# Altium schematic symbol library SparkFun-LED.SCHLIB: 86 symbols (part 1 of 2)
Pins are listed as number, name and electrical type; pins without a type are passive.

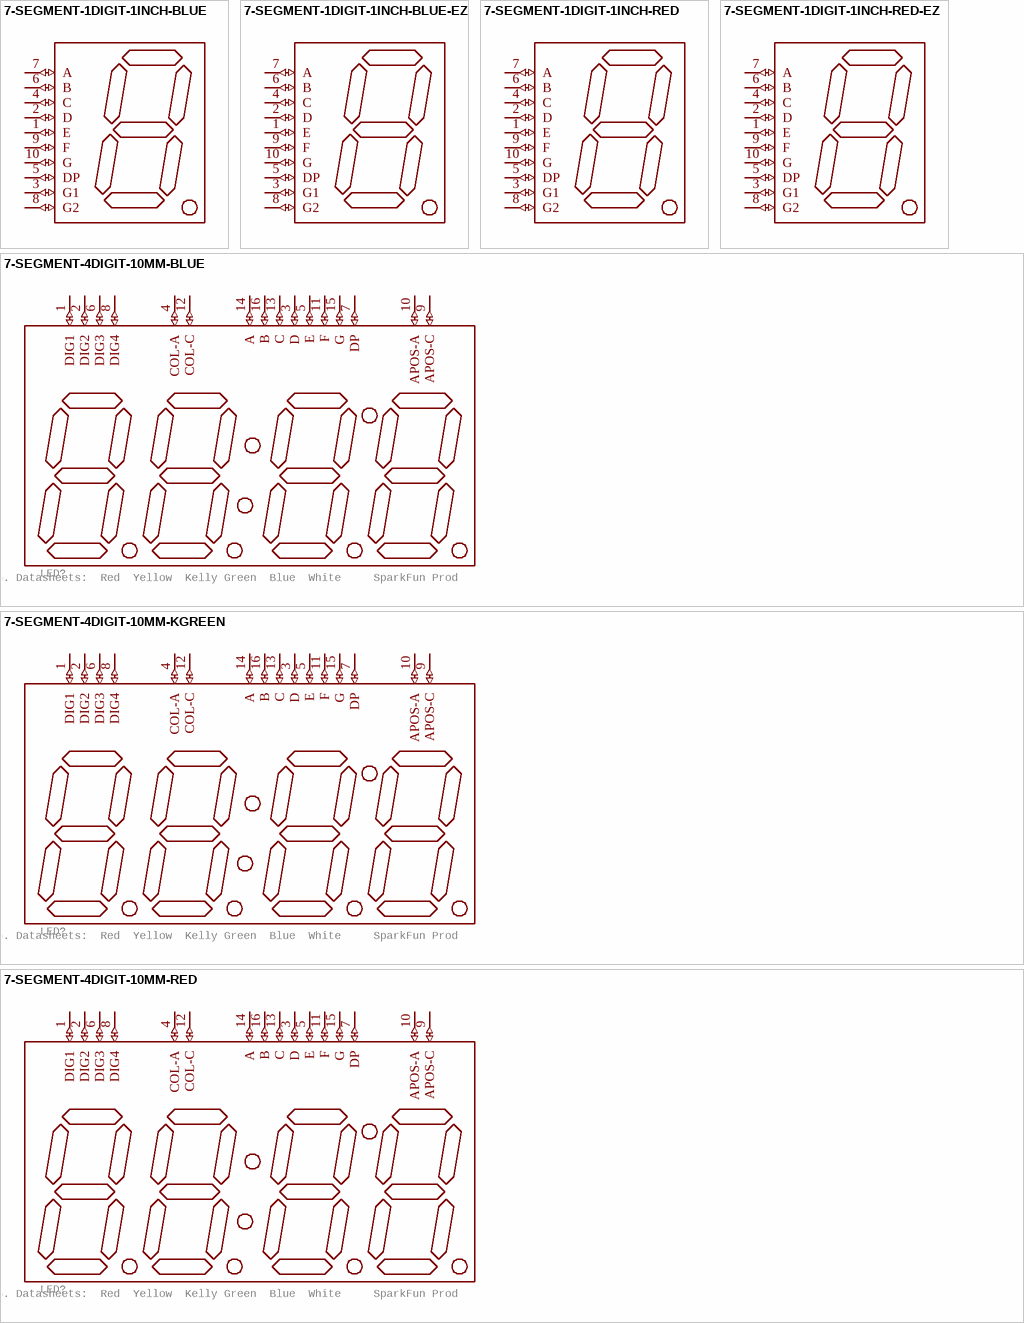
[diagram p0: symbols 7-SEGMENT-1DIGIT-1INCH-BLUE to 7-SEGMENT-4DIGIT-10MM-RED]

## 7-SEGMENT-1DIGIT-1INCH-BLUE
designator ?, comment 7-Segment Display, single digit, 1"    EZ is for kits. Pads are only exposed on the bottom side to help prevent soldering in upside down.    Datasheet (Red) Datasheet (Blue) SparkFun Products  7-Segment Display - LED (Red) (COM-08546)  7-Segment Display - LED (Blue) (COM-09191)  (value not drawn)
GateName_1: G$1; SymbolName_1: 7-SEGMENT-1"; DeviceName: -BLUE; DeviceSetName: 7-SEGMENT-1DIGIT-1INCH; PROD_ID: COMP-09495; LibraryName: SparkFun-LED; Package: 7-SEGMENT-1"PTH
footprint 7-SEGMENT-1"PTH
pins: 1 E (io), 2 D (io), 3 G1 (io), 4 C (io), 5 DP (io), 6 B (io), 7 A (io), 8 G2 (io), 9 F (io), 10 G (io)

## 7-SEGMENT-1DIGIT-1INCH-BLUE-EZ
designator ?, comment 7-Segment Display, single digit, 1"    EZ is for kits. Pads are only exposed on the bottom side to help prevent soldering in upside down.    Datasheet (Red) Datasheet (Blue) SparkFun Products  7-Segment Display - LED (Red) (COM-08546)  7-Segment Display - LED (Blue) (COM-09191)  (value not drawn)
GateName_1: G$1; SymbolName_1: 7-SEGMENT-1"; DeviceName: -BLUE-EZ; DeviceSetName: 7-SEGMENT-1DIGIT-1INCH; PROD_ID: COMP-09495; LibraryName: SparkFun-LED; Package: 7-SEGMENT-1"PTH-EZ
footprint 7-SEGMENT-1"PTH-EZ
pins: 1 E (io), 2 D (io), 3 G1 (io), 4 C (io), 5 DP (io), 6 B (io), 7 A (io), 8 G2 (io), 9 F (io), 10 G (io)

## 7-SEGMENT-1DIGIT-1INCH-RED
designator ?, comment 7-Segment Display, single digit, 1"    EZ is for kits. Pads are only exposed on the bottom side to help prevent soldering in upside down.    Datasheet (Red) Datasheet (Blue) SparkFun Products  7-Segment Display - LED (Red) (COM-08546)  7-Segment Display - LED (Blue) (COM-09191)  (value not drawn)
GateName_1: G$1; SymbolName_1: 7-SEGMENT-1"; DeviceName: -RED; DeviceSetName: 7-SEGMENT-1DIGIT-1INCH; PROD_ID: COMP-08615; LibraryName: SparkFun-LED; Package: 7-SEGMENT-1"PTH
footprint 7-SEGMENT-1"PTH
pins: 1 E (io), 2 D (io), 3 G1 (io), 4 C (io), 5 DP (io), 6 B (io), 7 A (io), 8 G2 (io), 9 F (io), 10 G (io)

## 7-SEGMENT-1DIGIT-1INCH-RED-EZ
designator ?, comment 7-Segment Display, single digit, 1"    EZ is for kits. Pads are only exposed on the bottom side to help prevent soldering in upside down.    Datasheet (Red) Datasheet (Blue) SparkFun Products  7-Segment Display - LED (Red) (COM-08546)  7-Segment Display - LED (Blue) (COM-09191)  (value not drawn)
GateName_1: G$1; SymbolName_1: 7-SEGMENT-1"; DeviceName: -RED-EZ; DeviceSetName: 7-SEGMENT-1DIGIT-1INCH; PROD_ID: COMP-08615; LibraryName: SparkFun-LED; Package: 7-SEGMENT-1"PTH-EZ
footprint 7-SEGMENT-1"PTH-EZ
pins: 1 E (io), 2 D (io), 3 G1 (io), 4 C (io), 5 DP (io), 6 B (io), 7 A (io), 8 G2 (io), 9 F (io), 10 G (io)

## 7-SEGMENT-4DIGIT-10MM-BLUE
designator LED?, comment 4 Digit 7 Segment Display    This is a part for the 4-Digit 7-segment LEDs from Young Sun.  Different from the Digikey LEDs, all 16 pins are used.  The LONGPADS Variant is used for a test jig, but you may like it because there is more pad to solder to. If you are concerned about routing space, the standard works just fine though. Datasheets:  Red  Yellow  Kelly Green  Blue  White     SparkFun Products  Raw Components  7-Segment Display - 4-Digit (Red) (COM-09483)  7-Segment Display - 4-Digit (Yellow) (COM-09480)  7-Segment Display - 4-Digit (Kelly Green) (COM-09482)  7-Segment Display - 4-Digit (Blue) (COM-09481)  7-Segment Display - 4-Digit (White) ( COM-10931)  Serial Controlled  SparkFun 7-Segment Serial Display - Red (COM-11441)  SparkFun 7-Segment Serial Display - Yellow (COM-11443)  SparkFun 7-Segment Serial Display - Kelly Green (COM-11440)  SparkFun 7-Segment Serial Display - Blue (COM-11442)  SparkFun 7-Segment Serial Display - White (COM-11629)  Other  SparkFun BigTime Watch Kit (KIT-11734)
GateName_1: G$1; SymbolName_1: 7-SEGMENT-4DIGIT-YOUNGSUN; DeviceName: -BLUE; DeviceSetName: 7-SEGMENT-4DIGIT-10MM; PROD_ID: COMP-09664; LibraryName: SparkFun-LED; Package: 7-SEGMENT-4DIGIT-YOUNGSUN
footprint 7-SEGMENT-4DIGIT-YOUNGSUN
pins: 1 DIG1 (io), 2 DIG2 (io), 3 D (io), 4 COL-A (io), 5 E (io), 6 DIG3 (io), 7 DP (io), 8 DIG4 (io), 9 APOS-C (io), 10 APOS-A (io), 11 F (io), 12 COL-C (io), 13 C (io), 14 A (io), 15 G (io), 16 B (io)

## 7-SEGMENT-4DIGIT-10MM-KGREEN
designator LED?, comment 4 Digit 7 Segment Display    This is a part for the 4-Digit 7-segment LEDs from Young Sun.  Different from the Digikey LEDs, all 16 pins are used.  The LONGPADS Variant is used for a test jig, but you may like it because there is more pad to solder to. If you are concerned about routing space, the standard works just fine though. Datasheets:  Red  Yellow  Kelly Green  Blue  White     SparkFun Products  Raw Components  7-Segment Display - 4-Digit (Red) (COM-09483)  7-Segment Display - 4-Digit (Yellow) (COM-09480)  7-Segment Display - 4-Digit (Kelly Green) (COM-09482)  7-Segment Display - 4-Digit (Blue) (COM-09481)  7-Segment Display - 4-Digit (White) ( COM-10931)  Serial Controlled  SparkFun 7-Segment Serial Display - Red (COM-11441)  SparkFun 7-Segment Serial Display - Yellow (COM-11443)  SparkFun 7-Segment Serial Display - Kelly Green (COM-11440)  SparkFun 7-Segment Serial Display - Blue (COM-11442)  SparkFun 7-Segment Serial Display - White (COM-11629)  Other  SparkFun BigTime Watch Kit (KIT-11734)
GateName_1: G$1; SymbolName_1: 7-SEGMENT-4DIGIT-YOUNGSUN; DeviceName: -KGREEN; DeviceSetName: 7-SEGMENT-4DIGIT-10MM; PROD_ID: COMP-09665; LibraryName: SparkFun-LED; Package: 7-SEGMENT-4DIGIT-YOUNGSUN
footprint 7-SEGMENT-4DIGIT-YOUNGSUN
pins: 1 DIG1 (io), 2 DIG2 (io), 3 D (io), 4 COL-A (io), 5 E (io), 6 DIG3 (io), 7 DP (io), 8 DIG4 (io), 9 APOS-C (io), 10 APOS-A (io), 11 F (io), 12 COL-C (io), 13 C (io), 14 A (io), 15 G (io), 16 B (io)

## 7-SEGMENT-4DIGIT-10MM-RED
designator LED?, comment 4 Digit 7 Segment Display    This is a part for the 4-Digit 7-segment LEDs from Young Sun.  Different from the Digikey LEDs, all 16 pins are used.  The LONGPADS Variant is used for a test jig, but you may like it because there is more pad to solder to. If you are concerned about routing space, the standard works just fine though. Datasheets:  Red  Yellow  Kelly Green  Blue  White     SparkFun Products  Raw Components  7-Segment Display - 4-Digit (Red) (COM-09483)  7-Segment Display - 4-Digit (Yellow) (COM-09480)  7-Segment Display - 4-Digit (Kelly Green) (COM-09482)  7-Segment Display - 4-Digit (Blue) (COM-09481)  7-Segment Display - 4-Digit (White) ( COM-10931)  Serial Controlled  SparkFun 7-Segment Serial Display - Red (COM-11441)  SparkFun 7-Segment Serial Display - Yellow (COM-11443)  SparkFun 7-Segment Serial Display - Kelly Green (COM-11440)  SparkFun 7-Segment Serial Display - Blue (COM-11442)  SparkFun 7-Segment Serial Display - White (COM-11629)  Other  SparkFun BigTime Watch Kit (KIT-11734)
GateName_1: G$1; SymbolName_1: 7-SEGMENT-4DIGIT-YOUNGSUN; DeviceName: -RED; DeviceSetName: 7-SEGMENT-4DIGIT-10MM; PROD_ID: COMP-09493; LibraryName: SparkFun-LED; Package: 7-SEGMENT-4DIGIT-YOUNGSUN
footprint 7-SEGMENT-4DIGIT-YOUNGSUN
pins: 1 DIG1 (io), 2 DIG2 (io), 3 D (io), 4 COL-A (io), 5 E (io), 6 DIG3 (io), 7 DP (io), 8 DIG4 (io), 9 APOS-C (io), 10 APOS-A (io), 11 F (io), 12 COL-C (io), 13 C (io), 14 A (io), 15 G (io), 16 B (io)

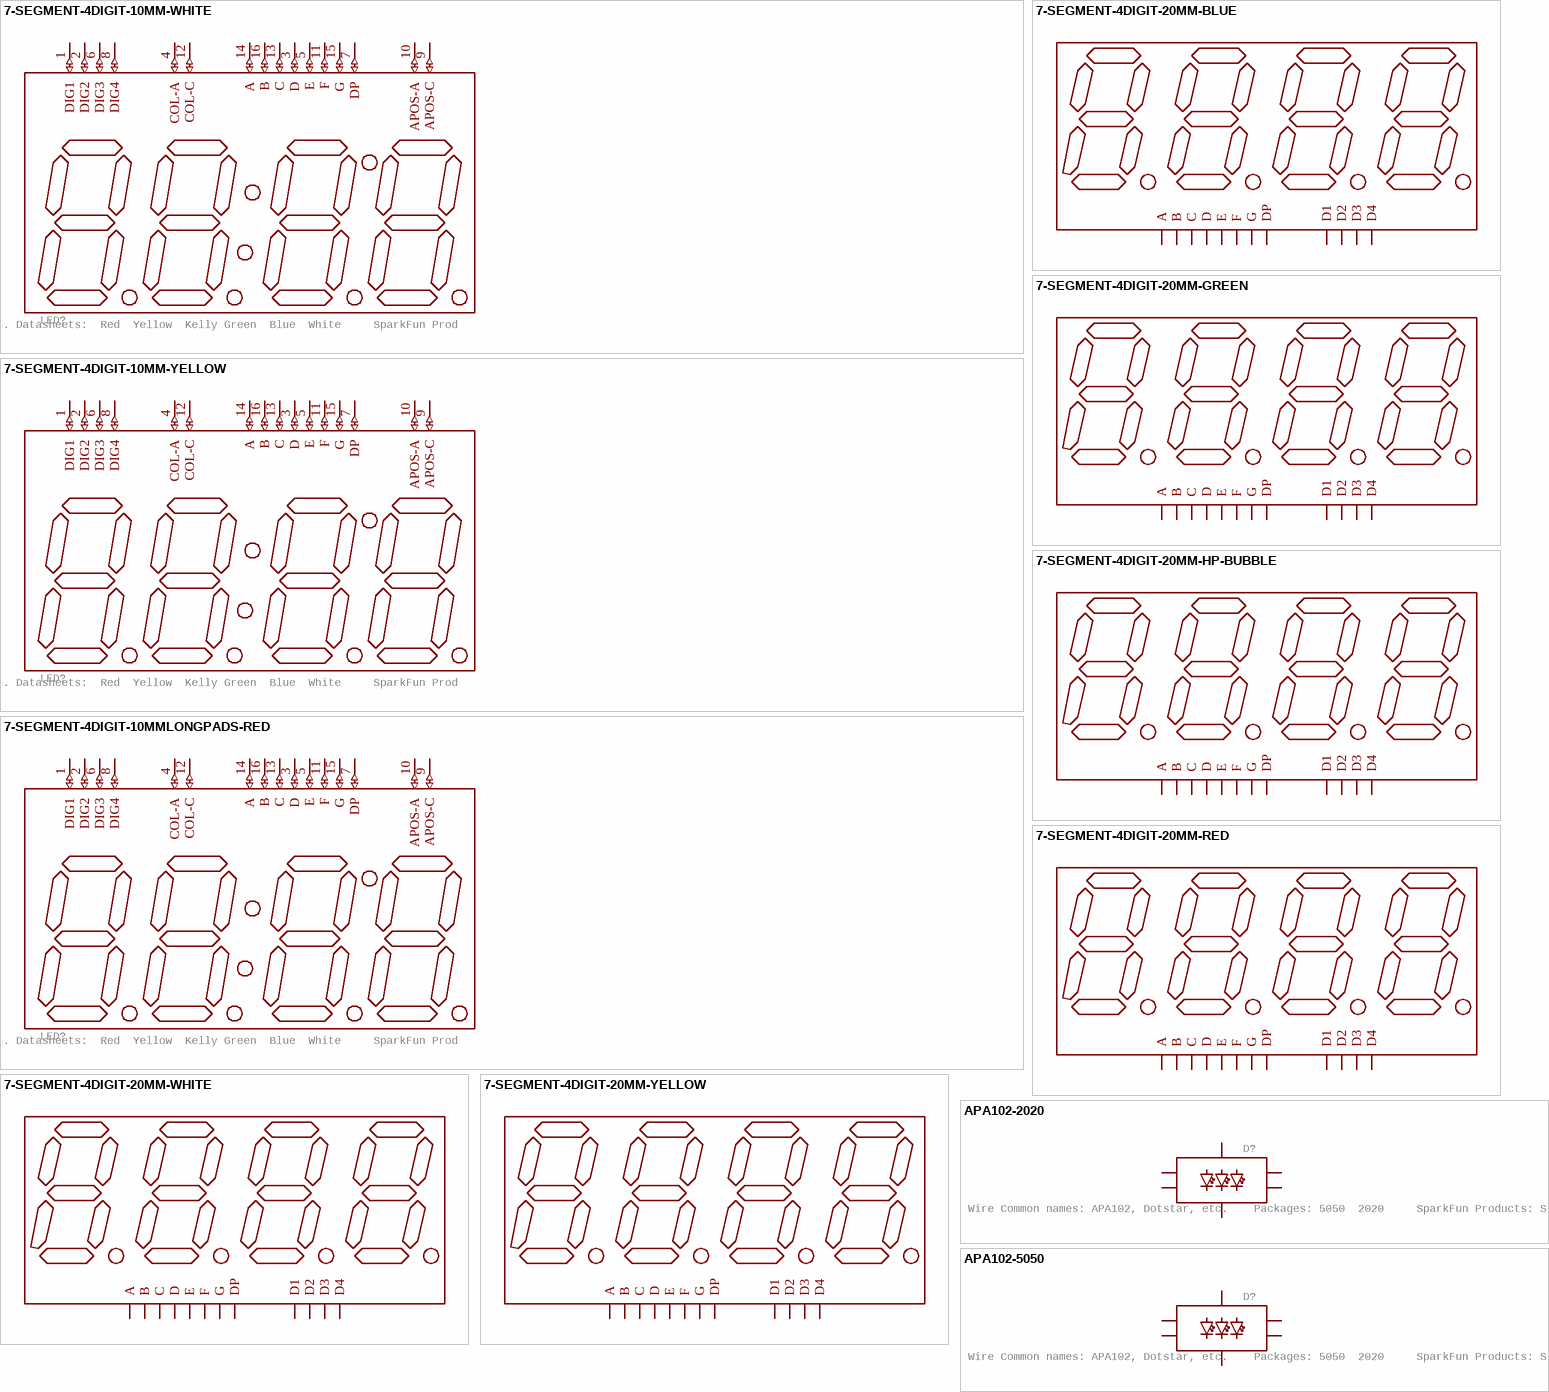
[diagram p1: symbols 7-SEGMENT-4DIGIT-10MM-WHITE to APA102-5050]

## 7-SEGMENT-4DIGIT-10MM-WHITE
designator LED?, comment 4 Digit 7 Segment Display    This is a part for the 4-Digit 7-segment LEDs from Young Sun.  Different from the Digikey LEDs, all 16 pins are used.  The LONGPADS Variant is used for a test jig, but you may like it because there is more pad to solder to. If you are concerned about routing space, the standard works just fine though. Datasheets:  Red  Yellow  Kelly Green  Blue  White     SparkFun Products  Raw Components  7-Segment Display - 4-Digit (Red) (COM-09483)  7-Segment Display - 4-Digit (Yellow) (COM-09480)  7-Segment Display - 4-Digit (Kelly Green) (COM-09482)  7-Segment Display - 4-Digit (Blue) (COM-09481)  7-Segment Display - 4-Digit (White) ( COM-10931)  Serial Controlled  SparkFun 7-Segment Serial Display - Red (COM-11441)  SparkFun 7-Segment Serial Display - Yellow (COM-11443)  SparkFun 7-Segment Serial Display - Kelly Green (COM-11440)  SparkFun 7-Segment Serial Display - Blue (COM-11442)  SparkFun 7-Segment Serial Display - White (COM-11629)  Other  SparkFun BigTime Watch Kit (KIT-11734)
GateName_1: G$1; SymbolName_1: 7-SEGMENT-4DIGIT-YOUNGSUN; DeviceName: -WHITE; DeviceSetName: 7-SEGMENT-4DIGIT-10MM; PROD_ID: COMP-11430; LibraryName: SparkFun-LED; Package: 7-SEGMENT-4DIGIT-YOUNGSUN
footprint 7-SEGMENT-4DIGIT-YOUNGSUN
pins: 1 DIG1 (io), 2 DIG2 (io), 3 D (io), 4 COL-A (io), 5 E (io), 6 DIG3 (io), 7 DP (io), 8 DIG4 (io), 9 APOS-C (io), 10 APOS-A (io), 11 F (io), 12 COL-C (io), 13 C (io), 14 A (io), 15 G (io), 16 B (io)

## 7-SEGMENT-4DIGIT-10MM-YELLOW
designator LED?, comment 4 Digit 7 Segment Display    This is a part for the 4-Digit 7-segment LEDs from Young Sun.  Different from the Digikey LEDs, all 16 pins are used.  The LONGPADS Variant is used for a test jig, but you may like it because there is more pad to solder to. If you are concerned about routing space, the standard works just fine though. Datasheets:  Red  Yellow  Kelly Green  Blue  White     SparkFun Products  Raw Components  7-Segment Display - 4-Digit (Red) (COM-09483)  7-Segment Display - 4-Digit (Yellow) (COM-09480)  7-Segment Display - 4-Digit (Kelly Green) (COM-09482)  7-Segment Display - 4-Digit (Blue) (COM-09481)  7-Segment Display - 4-Digit (White) ( COM-10931)  Serial Controlled  SparkFun 7-Segment Serial Display - Red (COM-11441)  SparkFun 7-Segment Serial Display - Yellow (COM-11443)  SparkFun 7-Segment Serial Display - Kelly Green (COM-11440)  SparkFun 7-Segment Serial Display - Blue (COM-11442)  SparkFun 7-Segment Serial Display - White (COM-11629)  Other  SparkFun BigTime Watch Kit (KIT-11734)
GateName_1: G$1; SymbolName_1: 7-SEGMENT-4DIGIT-YOUNGSUN; DeviceSetName: 7-SEGMENT-4DIGIT-10MM; PROD_ID: COMP-09654; DeviceName: -YELLOW; LibraryName: SparkFun-LED; Package: 7-SEGMENT-4DIGIT-YOUNGSUN
footprint 7-SEGMENT-4DIGIT-YOUNGSUN
pins: 1 DIG1 (io), 2 DIG2 (io), 3 D (io), 4 COL-A (io), 5 E (io), 6 DIG3 (io), 7 DP (io), 8 DIG4 (io), 9 APOS-C (io), 10 APOS-A (io), 11 F (io), 12 COL-C (io), 13 C (io), 14 A (io), 15 G (io), 16 B (io)

## 7-SEGMENT-4DIGIT-10MMLONGPADS-RED
designator LED?, comment 4 Digit 7 Segment Display    This is a part for the 4-Digit 7-segment LEDs from Young Sun.  Different from the Digikey LEDs, all 16 pins are used.  The LONGPADS Variant is used for a test jig, but you may like it because there is more pad to solder to. If you are concerned about routing space, the standard works just fine though. Datasheets:  Red  Yellow  Kelly Green  Blue  White     SparkFun Products  Raw Components  7-Segment Display - 4-Digit (Red) (COM-09483)  7-Segment Display - 4-Digit (Yellow) (COM-09480)  7-Segment Display - 4-Digit (Kelly Green) (COM-09482)  7-Segment Display - 4-Digit (Blue) (COM-09481)  7-Segment Display - 4-Digit (White) ( COM-10931)  Serial Controlled  SparkFun 7-Segment Serial Display - Red (COM-11441)  SparkFun 7-Segment Serial Display - Yellow (COM-11443)  SparkFun 7-Segment Serial Display - Kelly Green (COM-11440)  SparkFun 7-Segment Serial Display - Blue (COM-11442)  SparkFun 7-Segment Serial Display - White (COM-11629)  Other  SparkFun BigTime Watch Kit (KIT-11734)
GateName_1: G$1; SymbolName_1: 7-SEGMENT-4DIGIT-YOUNGSUN; DeviceName: LONGPADS-RED; DeviceSetName: 7-SEGMENT-4DIGIT-10MM; PROD_ID: COMP-09493; LibraryName: SparkFun-LED; Package: 7-SEGMENT-4DIGIT-YOUNGSUN-LONGPADS
footprint 7-SEGMENT-4DIGIT-YOUNGSUN-LONGPADS
pins: 1 DIG1 (io), 2 DIG2 (io), 3 D (io), 4 COL-A (io), 5 E (io), 6 DIG3 (io), 7 DP (io), 8 DIG4 (io), 9 APOS-C (io), 10 APOS-A (io), 11 F (io), 12 COL-C (io), 13 C (io), 14 A (io), 15 G (io), 16 B (io)

## 7-SEGMENT-4DIGIT-20MM-BLUE
designator DISP?, comment 4 Digit 7 Segment Display    This is a part for the 4-Digit 7-segment LEDs from Young Sun.  Different from the Digikey LEDs, all 16 pins are used.  The LONGPADS Variant is used for a test jig, but you may like it because there is more pad to solder to. If you are concerned about routing space, the standard works just fine though. Datasheets:  Red  Yellow  Green  Blue  White     SparkFun Products  Raw Components  7-Segment Display - 20mm (Red) (COM-11405)  7-Segment Display - 20mm (Yellow) (COM-11406)  7-Segment Display - 20mm (Green) (COM-11407)  7-Segment Display - 20mm (Blue) (COM-11408)  7-Segment Display - 20mm (White) (COM-11409)  Serial Controlled  SparkFun OpenSegment Serial Display - 20mm (Red) (COM-11644)  SparkFun OpenSegment Serial Display - 20mm (Yellow) (COM-11645)  SparkFun OpenSegment Serial Display - 20mm (Green) (COM-11646)  SparkFun OpenSegment Serial Display - 20mm (Blue) (COM-11647)  SparkFun OpenSegment Serial Display - 20mm (White) (COM-11648)  Other  SparkFun OpenSegment Shield (DEV-13190)  (value not drawn)
GateName_1: G$1; SymbolName_1: 7-SEGMENT-4DIGIT-COUNTER; DeviceName: -BLUE; DeviceSetName: 7-SEGMENT-4DIGIT-20MM; PROD_ID: COMP-11446; LibraryName: SparkFun-LED; Package: 7-SEGMENT-4DIGIT-20MM
footprint 7-SEGMENT-4DIGIT-20MM
pins: 1 E (io), 2 D (io), 3 DP (io), 4 C (io), 5 G (io), 6 D4 (io), 7 B (io), 8 D3 (io), 9 D2 (io), 10 F (io), 11 A (io), 12 D1 (io)

## 7-SEGMENT-4DIGIT-20MM-GREEN
designator DISP?, comment 4 Digit 7 Segment Display    This is a part for the 4-Digit 7-segment LEDs from Young Sun.  Different from the Digikey LEDs, all 16 pins are used.  The LONGPADS Variant is used for a test jig, but you may like it because there is more pad to solder to. If you are concerned about routing space, the standard works just fine though. Datasheets:  Red  Yellow  Green  Blue  White     SparkFun Products  Raw Components  7-Segment Display - 20mm (Red) (COM-11405)  7-Segment Display - 20mm (Yellow) (COM-11406)  7-Segment Display - 20mm (Green) (COM-11407)  7-Segment Display - 20mm (Blue) (COM-11408)  7-Segment Display - 20mm (White) (COM-11409)  Serial Controlled  SparkFun OpenSegment Serial Display - 20mm (Red) (COM-11644)  SparkFun OpenSegment Serial Display - 20mm (Yellow) (COM-11645)  SparkFun OpenSegment Serial Display - 20mm (Green) (COM-11646)  SparkFun OpenSegment Serial Display - 20mm (Blue) (COM-11647)  SparkFun OpenSegment Serial Display - 20mm (White) (COM-11648)  Other  SparkFun OpenSegment Shield (DEV-13190)  (value not drawn)
GateName_1: G$1; SymbolName_1: 7-SEGMENT-4DIGIT-COUNTER; DeviceName: -GREEN; DeviceSetName: 7-SEGMENT-4DIGIT-20MM; PROD_ID: COMP-11447; LibraryName: SparkFun-LED; Package: 7-SEGMENT-4DIGIT-20MM
footprint 7-SEGMENT-4DIGIT-20MM
pins: 1 E (io), 2 D (io), 3 DP (io), 4 C (io), 5 G (io), 6 D4 (io), 7 B (io), 8 D3 (io), 9 D2 (io), 10 F (io), 11 A (io), 12 D1 (io)

## 7-SEGMENT-4DIGIT-20MM-HP-BUBBLE
designator DISP?, comment 4 Digit 7 Segment Display    This is a part for the 4-Digit 7-segment LEDs from Young Sun.  Different from the Digikey LEDs, all 16 pins are used.  The LONGPADS Variant is used for a test jig, but you may like it because there is more pad to solder to. If you are concerned about routing space, the standard works just fine though. Datasheets:  Red  Yellow  Green  Blue  White     SparkFun Products  Raw Components  7-Segment Display - 20mm (Red) (COM-11405)  7-Segment Display - 20mm (Yellow) (COM-11406)  7-Segment Display - 20mm (Green) (COM-11407)  7-Segment Display - 20mm (Blue) (COM-11408)  7-Segment Display - 20mm (White) (COM-11409)  Serial Controlled  SparkFun OpenSegment Serial Display - 20mm (Red) (COM-11644)  SparkFun OpenSegment Serial Display - 20mm (Yellow) (COM-11645)  SparkFun OpenSegment Serial Display - 20mm (Green) (COM-11646)  SparkFun OpenSegment Serial Display - 20mm (Blue) (COM-11647)  SparkFun OpenSegment Serial Display - 20mm (White) (COM-11648)  Other  SparkFun OpenSegment Shield (DEV-13190)  (value not drawn)
GateName_1: G$1; SymbolName_1: 7-SEGMENT-4DIGIT-COUNTER; DeviceName: -HP-BUBBLE; DeviceSetName: 7-SEGMENT-4DIGIT-20MM; STOREFRONT: COM-12710; LibraryName: SparkFun-LED; Package: DIP12-HP-BUBBLE
footprint DIP12-HP-BUBBLE
pins: 1 D1 (io), 2 E (io), 3 C (io), 4 D3 (io), 5 DP (io), 6 D4 (io), 7 G (io), 8 D (io), 9 F (io), 10 D2 (io), 11 B (io), 12 A (io)

## 7-SEGMENT-4DIGIT-20MM-RED
designator DISP?, comment 4 Digit 7 Segment Display    This is a part for the 4-Digit 7-segment LEDs from Young Sun.  Different from the Digikey LEDs, all 16 pins are used.  The LONGPADS Variant is used for a test jig, but you may like it because there is more pad to solder to. If you are concerned about routing space, the standard works just fine though. Datasheets:  Red  Yellow  Green  Blue  White     SparkFun Products  Raw Components  7-Segment Display - 20mm (Red) (COM-11405)  7-Segment Display - 20mm (Yellow) (COM-11406)  7-Segment Display - 20mm (Green) (COM-11407)  7-Segment Display - 20mm (Blue) (COM-11408)  7-Segment Display - 20mm (White) (COM-11409)  Serial Controlled  SparkFun OpenSegment Serial Display - 20mm (Red) (COM-11644)  SparkFun OpenSegment Serial Display - 20mm (Yellow) (COM-11645)  SparkFun OpenSegment Serial Display - 20mm (Green) (COM-11646)  SparkFun OpenSegment Serial Display - 20mm (Blue) (COM-11647)  SparkFun OpenSegment Serial Display - 20mm (White) (COM-11648)  Other  SparkFun OpenSegment Shield (DEV-13190)  (value not drawn)
GateName_1: G$1; SymbolName_1: 7-SEGMENT-4DIGIT-COUNTER; DeviceName: -RED; DeviceSetName: 7-SEGMENT-4DIGIT-20MM; PROD_ID: COMP-11449; LibraryName: SparkFun-LED; Package: 7-SEGMENT-4DIGIT-20MM
footprint 7-SEGMENT-4DIGIT-20MM
pins: 1 E (io), 2 D (io), 3 DP (io), 4 C (io), 5 G (io), 6 D4 (io), 7 B (io), 8 D3 (io), 9 D2 (io), 10 F (io), 11 A (io), 12 D1 (io)

## 7-SEGMENT-4DIGIT-20MM-WHITE
designator DISP?, comment 4 Digit 7 Segment Display    This is a part for the 4-Digit 7-segment LEDs from Young Sun.  Different from the Digikey LEDs, all 16 pins are used.  The LONGPADS Variant is used for a test jig, but you may like it because there is more pad to solder to. If you are concerned about routing space, the standard works just fine though. Datasheets:  Red  Yellow  Green  Blue  White     SparkFun Products  Raw Components  7-Segment Display - 20mm (Red) (COM-11405)  7-Segment Display - 20mm (Yellow) (COM-11406)  7-Segment Display - 20mm (Green) (COM-11407)  7-Segment Display - 20mm (Blue) (COM-11408)  7-Segment Display - 20mm (White) (COM-11409)  Serial Controlled  SparkFun OpenSegment Serial Display - 20mm (Red) (COM-11644)  SparkFun OpenSegment Serial Display - 20mm (Yellow) (COM-11645)  SparkFun OpenSegment Serial Display - 20mm (Green) (COM-11646)  SparkFun OpenSegment Serial Display - 20mm (Blue) (COM-11647)  SparkFun OpenSegment Serial Display - 20mm (White) (COM-11648)  Other  SparkFun OpenSegment Shield (DEV-13190)  (value not drawn)
GateName_1: G$1; SymbolName_1: 7-SEGMENT-4DIGIT-COUNTER; DeviceName: -WHITE; DeviceSetName: 7-SEGMENT-4DIGIT-20MM; PROD_ID: COMP-11445; LibraryName: SparkFun-LED; Package: 7-SEGMENT-4DIGIT-20MM
footprint 7-SEGMENT-4DIGIT-20MM
pins: 1 E (io), 2 D (io), 3 DP (io), 4 C (io), 5 G (io), 6 D4 (io), 7 B (io), 8 D3 (io), 9 D2 (io), 10 F (io), 11 A (io), 12 D1 (io)

## 7-SEGMENT-4DIGIT-20MM-YELLOW
designator DISP?, comment 4 Digit 7 Segment Display    This is a part for the 4-Digit 7-segment LEDs from Young Sun.  Different from the Digikey LEDs, all 16 pins are used.  The LONGPADS Variant is used for a test jig, but you may like it because there is more pad to solder to. If you are concerned about routing space, the standard works just fine though. Datasheets:  Red  Yellow  Green  Blue  White     SparkFun Products  Raw Components  7-Segment Display - 20mm (Red) (COM-11405)  7-Segment Display - 20mm (Yellow) (COM-11406)  7-Segment Display - 20mm (Green) (COM-11407)  7-Segment Display - 20mm (Blue) (COM-11408)  7-Segment Display - 20mm (White) (COM-11409)  Serial Controlled  SparkFun OpenSegment Serial Display - 20mm (Red) (COM-11644)  SparkFun OpenSegment Serial Display - 20mm (Yellow) (COM-11645)  SparkFun OpenSegment Serial Display - 20mm (Green) (COM-11646)  SparkFun OpenSegment Serial Display - 20mm (Blue) (COM-11647)  SparkFun OpenSegment Serial Display - 20mm (White) (COM-11648)  Other  SparkFun OpenSegment Shield (DEV-13190)  (value not drawn)
GateName_1: G$1; SymbolName_1: 7-SEGMENT-4DIGIT-COUNTER; DeviceName: -YELLOW; DeviceSetName: 7-SEGMENT-4DIGIT-20MM; PROD_ID: COMP-11448; LibraryName: SparkFun-LED; Package: 7-SEGMENT-4DIGIT-20MM
footprint 7-SEGMENT-4DIGIT-20MM
pins: 1 E (io), 2 D (io), 3 DP (io), 4 C (io), 5 G (io), 6 D4 (io), 7 B (io), 8 D3 (io), 9 D2 (io), 10 F (io), 11 A (io), 12 D1 (io)

## APA102-2020
designator D?, comment Addressable RGB LED - 2 Wire Common names: APA102, Dotstar, etc.    Packages: 5050  2020     SparkFun Products: SparkFun Lumenati Boards
GateName_1: G$1; SymbolName_1: LED-RGB-ADDRESSABLE-2WIRE; DeviceName: -2020; PROD_ID: DIO-14111; LibraryName: SparkFun-LED; DeviceSetName: APA102; Package: APA102-2020
footprint APA102-2020
pins: CKI CI (io), CKO CO (io), GND (io), SDI DI (io), SDO DO (io), VDD VCC (io)

## APA102-5050
designator D?, comment Addressable RGB LED - 2 Wire Common names: APA102, Dotstar, etc.    Packages: 5050  2020     SparkFun Products: SparkFun Lumenati Boards
GateName_1: G$1; SymbolName_1: LED-RGB-ADDRESSABLE-2WIRE; DeviceName: -5050; PROD_ID: DIO-13739; LibraryName: SparkFun-LED; DeviceSetName: APA102; Package: APA102-5050
footprint APA102-5050
pins: P1 DI (io), P2 CI (io), P3 GND (io), P4 VCC (io), P5 CO (io), P6 DO (io)

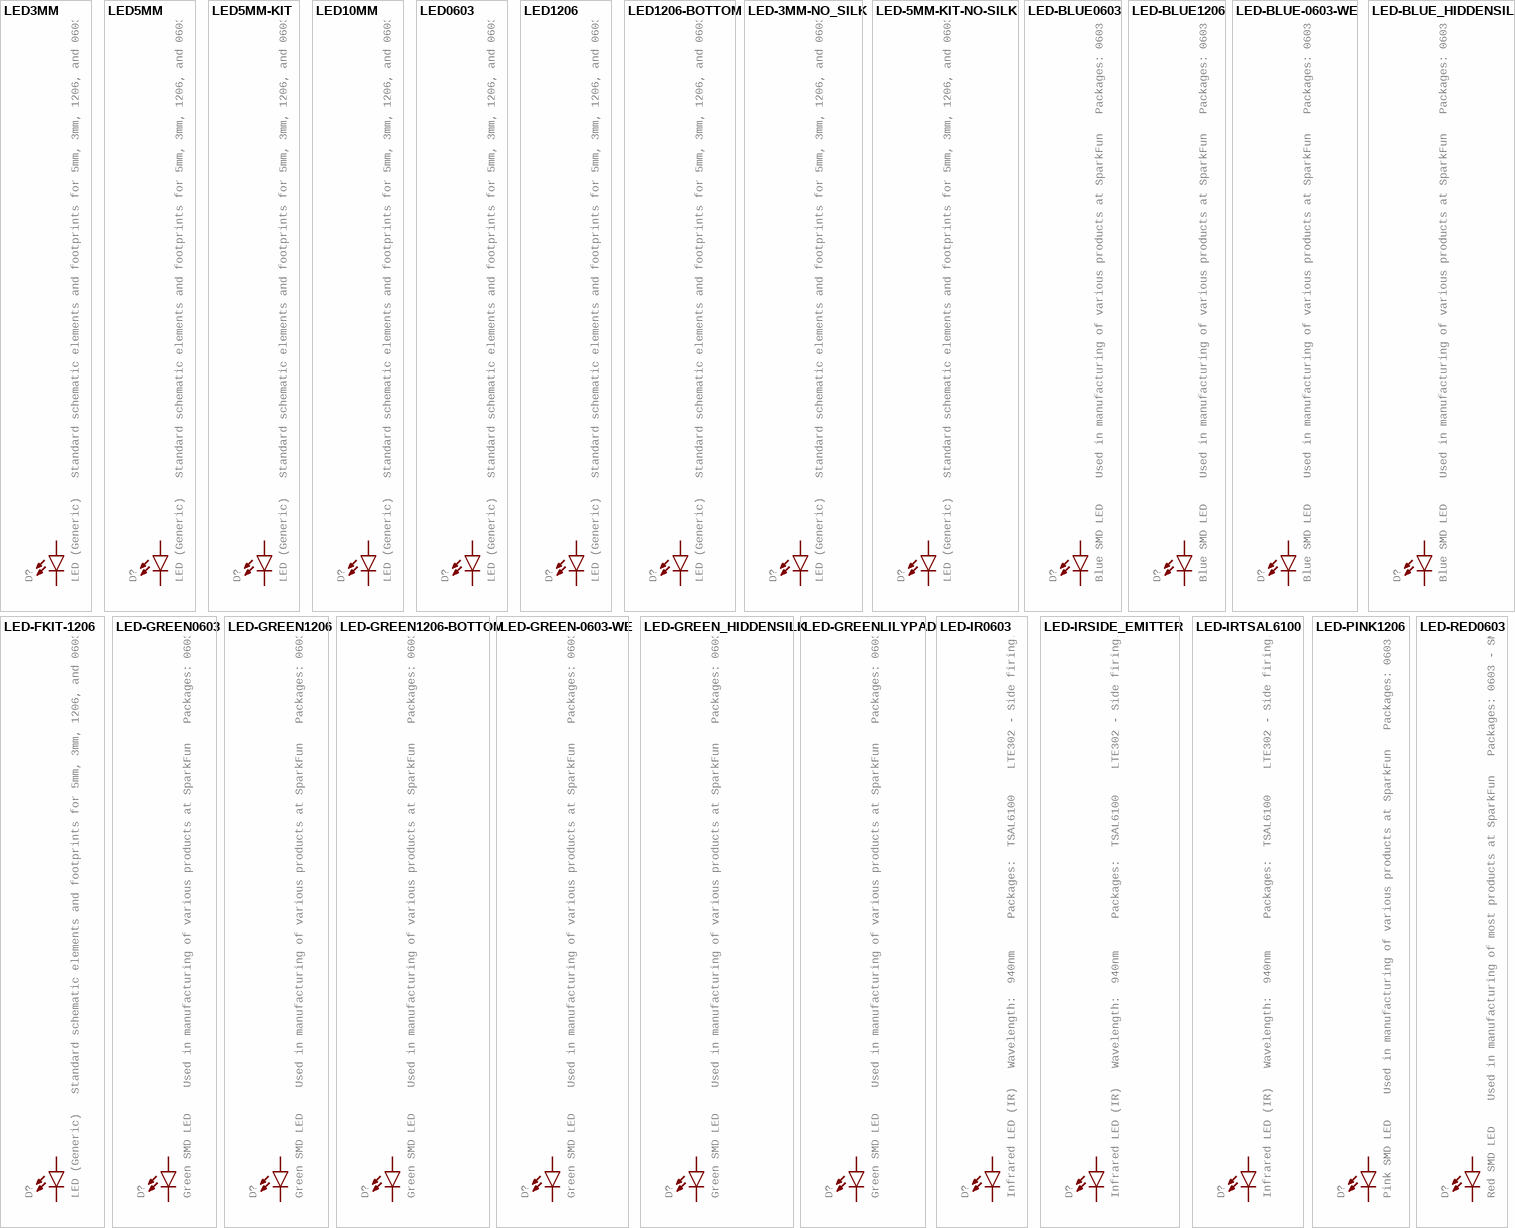
[diagram p2: symbols LED3MM to LED-RED0603]

## LED3MM
designator D?, comment LED (Generic)   Standard schematic elements and footprints for 5mm, 3mm, 1206, and 0603 sized LEDs. Generic LEDs with no color specified.
GateName_1: D1; PROD_ID: DIO-08794; SymbolName_1: LED; DeviceName: 3MM; LibraryName: SparkFun-LED; DeviceSetName: LED; Package: LED_3MM
footprint LED_3MM
pins: A, K C

## LED5MM
designator D?, comment LED (Generic)   Standard schematic elements and footprints for 5mm, 3mm, 1206, and 0603 sized LEDs. Generic LEDs with no color specified.
GateName_1: D1; SymbolName_1: LED; DeviceName: 5MM; LibraryName: SparkFun-LED; DeviceSetName: LED; Package: LED_5MM
footprint LED_5MM
pins: A, K C

## LED5MM-KIT
designator D?, comment LED (Generic)   Standard schematic elements and footprints for 5mm, 3mm, 1206, and 0603 sized LEDs. Generic LEDs with no color specified.
GateName_1: D1; DeviceName: 5MM-KIT; SymbolName_1: LED; LibraryName: SparkFun-LED; DeviceSetName: LED; Package: LED_5MM-KIT
footprint LED_5MM-KIT
pins: A, K C

## LED10MM
designator D?, comment LED (Generic)   Standard schematic elements and footprints for 5mm, 3mm, 1206, and 0603 sized LEDs. Generic LEDs with no color specified.
GateName_1: D1; DeviceName: 10MM; SymbolName_1: LED; LibraryName: SparkFun-LED; DeviceSetName: LED; Package: LED_10MM
footprint LED_10MM
pins: A, C

## LED0603
designator D?, comment LED (Generic)   Standard schematic elements and footprints for 5mm, 3mm, 1206, and 0603 sized LEDs. Generic LEDs with no color specified.
GateName_1: D1; DeviceName: 0603; SymbolName_1: LED; LibraryName: SparkFun-LED; DeviceSetName: LED; Package: LED-0603
footprint LED-0603
pins: A, C

## LED1206
designator D?, comment LED (Generic)   Standard schematic elements and footprints for 5mm, 3mm, 1206, and 0603 sized LEDs. Generic LEDs with no color specified.
GateName_1: D1; DeviceName: 1206; SymbolName_1: LED; LibraryName: SparkFun-LED; DeviceSetName: LED; Package: LED-1206
footprint LED-1206
pins: A, C

## LED1206-BOTTOM
designator D?, comment LED (Generic)   Standard schematic elements and footprints for 5mm, 3mm, 1206, and 0603 sized LEDs. Generic LEDs with no color specified.
GateName_1: D1; DeviceName: 1206-BOTTOM; SymbolName_1: LED; LibraryName: SparkFun-LED; DeviceSetName: LED; Package: LED-1206-BOTTOM
footprint LED-1206-BOTTOM
pins: A, C

## LED-3MM-NO_SILK
designator D?, comment LED (Generic)   Standard schematic elements and footprints for 5mm, 3mm, 1206, and 0603 sized LEDs. Generic LEDs with no color specified.
GateName_1: D1; DeviceName: -3MM-NO_SILK; SymbolName_1: LED; LibraryName: SparkFun-LED; DeviceSetName: LED; Package: LED_3MM-NS
footprint LED_3MM-NS
pins: A, K C

## LED-5MM-KIT-NO-SILK
designator D?, comment LED (Generic)   Standard schematic elements and footprints for 5mm, 3mm, 1206, and 0603 sized LEDs. Generic LEDs with no color specified.
GateName_1: D1; DeviceName: -5MM-KIT-NO-SILK; SymbolName_1: LED; LibraryName: SparkFun-LED; DeviceSetName: LED; Package: LED_5MM-KIT-NO-SILK
footprint LED_5MM-KIT-NO-SILK
pins: A, K C

## LED-BLUE0603
designator D?, comment Blue SMD LED    Used in manufacturing of various products at SparkFun   Packages: 0603 - SMD 0603 package [Product Link]  1206 - SMD1206  package [Product Link]    SparkFun Products: ESP8266 Thing-Dev Board  RedBoard
GateName_1: G$1; DeviceName: 0603; DeviceSetName: LED-BLUE; PROD_ID: DIO-08575; SymbolName_1: LED; LibraryName: SparkFun-LED; Package: LED-0603
footprint LED-0603
pins: A, C

## LED-BLUE1206
designator D?, comment Blue SMD LED    Used in manufacturing of various products at SparkFun   Packages: 0603 - SMD 0603 package [Product Link]  1206 - SMD1206  package [Product Link]    SparkFun Products: ESP8266 Thing-Dev Board  RedBoard
GateName_1: G$1; DeviceName: 1206; DeviceSetName: LED-BLUE; PROD_ID: DIO-09911; SymbolName_1: LED; LibraryName: SparkFun-LED; Package: LED-1206
footprint LED-1206
pins: A, C

## LED-BLUE-0603-WE
designator D?, comment Blue SMD LED    Used in manufacturing of various products at SparkFun   Packages: 0603 - SMD 0603 package [Product Link]  1206 - SMD1206  package [Product Link]    SparkFun Products: ESP8266 Thing-Dev Board  RedBoard
GateName_1: G$1; DeviceName: -0603-WE; DeviceSetName: LED-BLUE; PROD_ID: DIO-16513; SymbolName_1: LED; LibraryName: SparkFun-LED; Package: LED-0603
footprint LED-0603
pins: A, C

## LED-BLUE_HIDDENSILK
designator D?, comment Blue SMD LED    Used in manufacturing of various products at SparkFun   Packages: 0603 - SMD 0603 package [Product Link]  1206 - SMD1206  package [Product Link]    SparkFun Products: ESP8266 Thing-Dev Board  RedBoard
GateName_1: G$1; DeviceName: _HIDDENSILK; DeviceSetName: LED-BLUE; PROD_ID: DIO-09911; SymbolName_1: LED; LibraryName: SparkFun-LED; Package: LED-1206-HIDDENSILK
footprint LED-1206-HIDDENSILK
pins: A, C

## LED-FKIT-1206
designator D?, comment LED (Generic)   Standard schematic elements and footprints for 5mm, 3mm, 1206, and 0603 sized LEDs. Generic LEDs with no color specified.
GateName_1: D1; DeviceName: -FKIT-1206; SymbolName_1: LED; LibraryName: SparkFun-LED; DeviceSetName: LED; Package: FKIT-LED-1206
footprint FKIT-LED-1206
pins: A, C

## LED-GREEN0603
designator D?, comment Green SMD LED    Used in manufacturing of various products at SparkFun   Packages: 0603 - SMD 0603 package [Product Link]  LilyPad 1206 - SMD1206 LilyPad package [Product Link]   1206 - SMD1206  package   1206 Bottom Mount -SMD 1206 Bottom Mount    SparkFun Products: Pro Mini 328 -5V  RedBoard  MP3 Trigger  Makey Makey
GateName_1: G$1; DeviceName: 0603; DeviceSetName: LED-GREEN; PROD_ID: DIO-00821; SymbolName_1: LED; LibraryName: SparkFun-LED; Package: LED-0603
footprint LED-0603
pins: A, C

## LED-GREEN1206
designator D?, comment Green SMD LED    Used in manufacturing of various products at SparkFun   Packages: 0603 - SMD 0603 package [Product Link]  LilyPad 1206 - SMD1206 LilyPad package [Product Link]   1206 - SMD1206  package   1206 Bottom Mount -SMD 1206 Bottom Mount    SparkFun Products: Pro Mini 328 -5V  RedBoard  MP3 Trigger  Makey Makey
GateName_1: G$1; DeviceName: 1206; DeviceSetName: LED-GREEN; PROD_ID: DIO-00862; SymbolName_1: LED; LibraryName: SparkFun-LED; Package: LED-1206
footprint LED-1206
pins: A, C

## LED-GREEN1206-BOTTOM
designator D?, comment Green SMD LED    Used in manufacturing of various products at SparkFun   Packages: 0603 - SMD 0603 package [Product Link]  LilyPad 1206 - SMD1206 LilyPad package [Product Link]   1206 - SMD1206  package   1206 Bottom Mount -SMD 1206 Bottom Mount    SparkFun Products: Pro Mini 328 -5V  RedBoard  MP3 Trigger  Makey Makey
GateName_1: G$1; DeviceName: 1206-BOTTOM; DeviceSetName: LED-GREEN; PROD_ID: DIO-11076; SymbolName_1: LED; LibraryName: SparkFun-LED; Package: LED-1206-BOTTOM
footprint LED-1206-BOTTOM
pins: A, C

## LED-GREEN-0603-WE
designator D?, comment Green SMD LED    Used in manufacturing of various products at SparkFun   Packages: 0603 - SMD 0603 package [Product Link]  LilyPad 1206 - SMD1206 LilyPad package [Product Link]   1206 - SMD1206  package   1206 Bottom Mount -SMD 1206 Bottom Mount    SparkFun Products: Pro Mini 328 -5V  RedBoard  MP3 Trigger  Makey Makey
GateName_1: G$1; DeviceName: -0603-WE; DeviceSetName: LED-GREEN; PROD_ID: DIO-16512; SymbolName_1: LED; LibraryName: SparkFun-LED; Package: LED-0603
footprint LED-0603
pins: A, C

## LED-GREEN_HIDDENSILK
designator D?, comment Green SMD LED    Used in manufacturing of various products at SparkFun   Packages: 0603 - SMD 0603 package [Product Link]  LilyPad 1206 - SMD1206 LilyPad package [Product Link]   1206 - SMD1206  package   1206 Bottom Mount -SMD 1206 Bottom Mount    SparkFun Products: Pro Mini 328 -5V  RedBoard  MP3 Trigger  Makey Makey
GateName_1: G$1; DeviceName: _HIDDENSILK; DeviceSetName: LED-GREEN; PROD_ID: DIO-00862; SymbolName_1: LED; LibraryName: SparkFun-LED; Package: LED-1206-HIDDENSILK
footprint LED-1206-HIDDENSILK
pins: A, C

## LED-GREENLILYPAD
designator D?, comment Green SMD LED    Used in manufacturing of various products at SparkFun   Packages: 0603 - SMD 0603 package [Product Link]  LilyPad 1206 - SMD1206 LilyPad package [Product Link]   1206 - SMD1206  package   1206 Bottom Mount -SMD 1206 Bottom Mount    SparkFun Products: Pro Mini 328 -5V  RedBoard  MP3 Trigger  Makey Makey
GateName_1: G$1; DeviceSetName: LED-GREEN; PROD_ID: DIO-09910; SymbolName_1: LED; DeviceName: LILYPAD; LibraryName: SparkFun-LED; Package: LED-1206
footprint LED-1206
pins: A, C

## LED-IR0603
designator D?, comment Infrared LED (IR)   Wavelength:  940nm     Packages:  TSAL6100    LTE302 - Side firing. Check SparkFun-Sensors.lbr for the receiver    SparkFun Products: ZX Distance and Gesture Sensor  Infrared Emitters and Detectors
GateName_1: G$1; DeviceName: 0603; DeviceSetName: LED-IR; PROD_ID: DIO-14125; SymbolName_1: LED; LibraryName: SparkFun-LED; Package: LED-0603
footprint LED-0603
pins: A, C

## LED-IRSIDE_EMITTER
designator D?, comment Infrared LED (IR)   Wavelength:  940nm     Packages:  TSAL6100    LTE302 - Side firing. Check SparkFun-Sensors.lbr for the receiver    SparkFun Products: ZX Distance and Gesture Sensor  Infrared Emitters and Detectors
GateName_1: G$1; DeviceName: SIDE_EMITTER; DeviceSetName: LED-IR; PROD_ID: DIO-14163; SF_ID: SEN-00241; SymbolName_1: LED; LibraryName: SparkFun-LED; Package: LTE-302
footprint LTE-302
pins: A, C

## LED-IRTSAL6100
designator D?, comment Infrared LED (IR)   Wavelength:  940nm     Packages:  TSAL6100    LTE302 - Side firing. Check SparkFun-Sensors.lbr for the receiver    SparkFun Products: ZX Distance and Gesture Sensor  Infrared Emitters and Detectors
GateName_1: G$1; DeviceSetName: LED-IR; PROD_ID: DIO-12058; SymbolName_1: LED; DeviceName: TSAL6100; LibraryName: SparkFun-LED; Package: LED_5MM
footprint LED_5MM
pins: A, K C

## LED-PINK1206
designator D?, comment Pink SMD LED    Used in manufacturing of various products at SparkFun   Packages: 0603 - SMD 0603 package [Product Link]    SparkFun Products: LilyPad LED Pink
GateName_1: G$1; DeviceName: 1206; DeviceSetName: LED-PINK; PROD_ID: DIO-10415; SymbolName_1: LED; LibraryName: SparkFun-LED; Package: LED-1206
footprint LED-1206
pins: A, C

## LED-RED0603
designator D?, comment Red SMD LED    Used in manufacturing of most products at SparkFun   Packages: 0603 - SMD 0603 package [Product Link]  0603 SMART - SMD 0603 SMART package ( more efficient and expensive)[Product Link]   1206 - SMD1206  package [Product Link]    SparkFun Products: Pro Mini 328 -5V  RedBoard  IOIO-OTG
GateName_1: G$1; DeviceName: 0603; DeviceSetName: LED-RED; PROD_ID: DIO-00819; SymbolName_1: LED; LibraryName: SparkFun-LED; Package: LED-0603
footprint LED-0603
pins: A, C

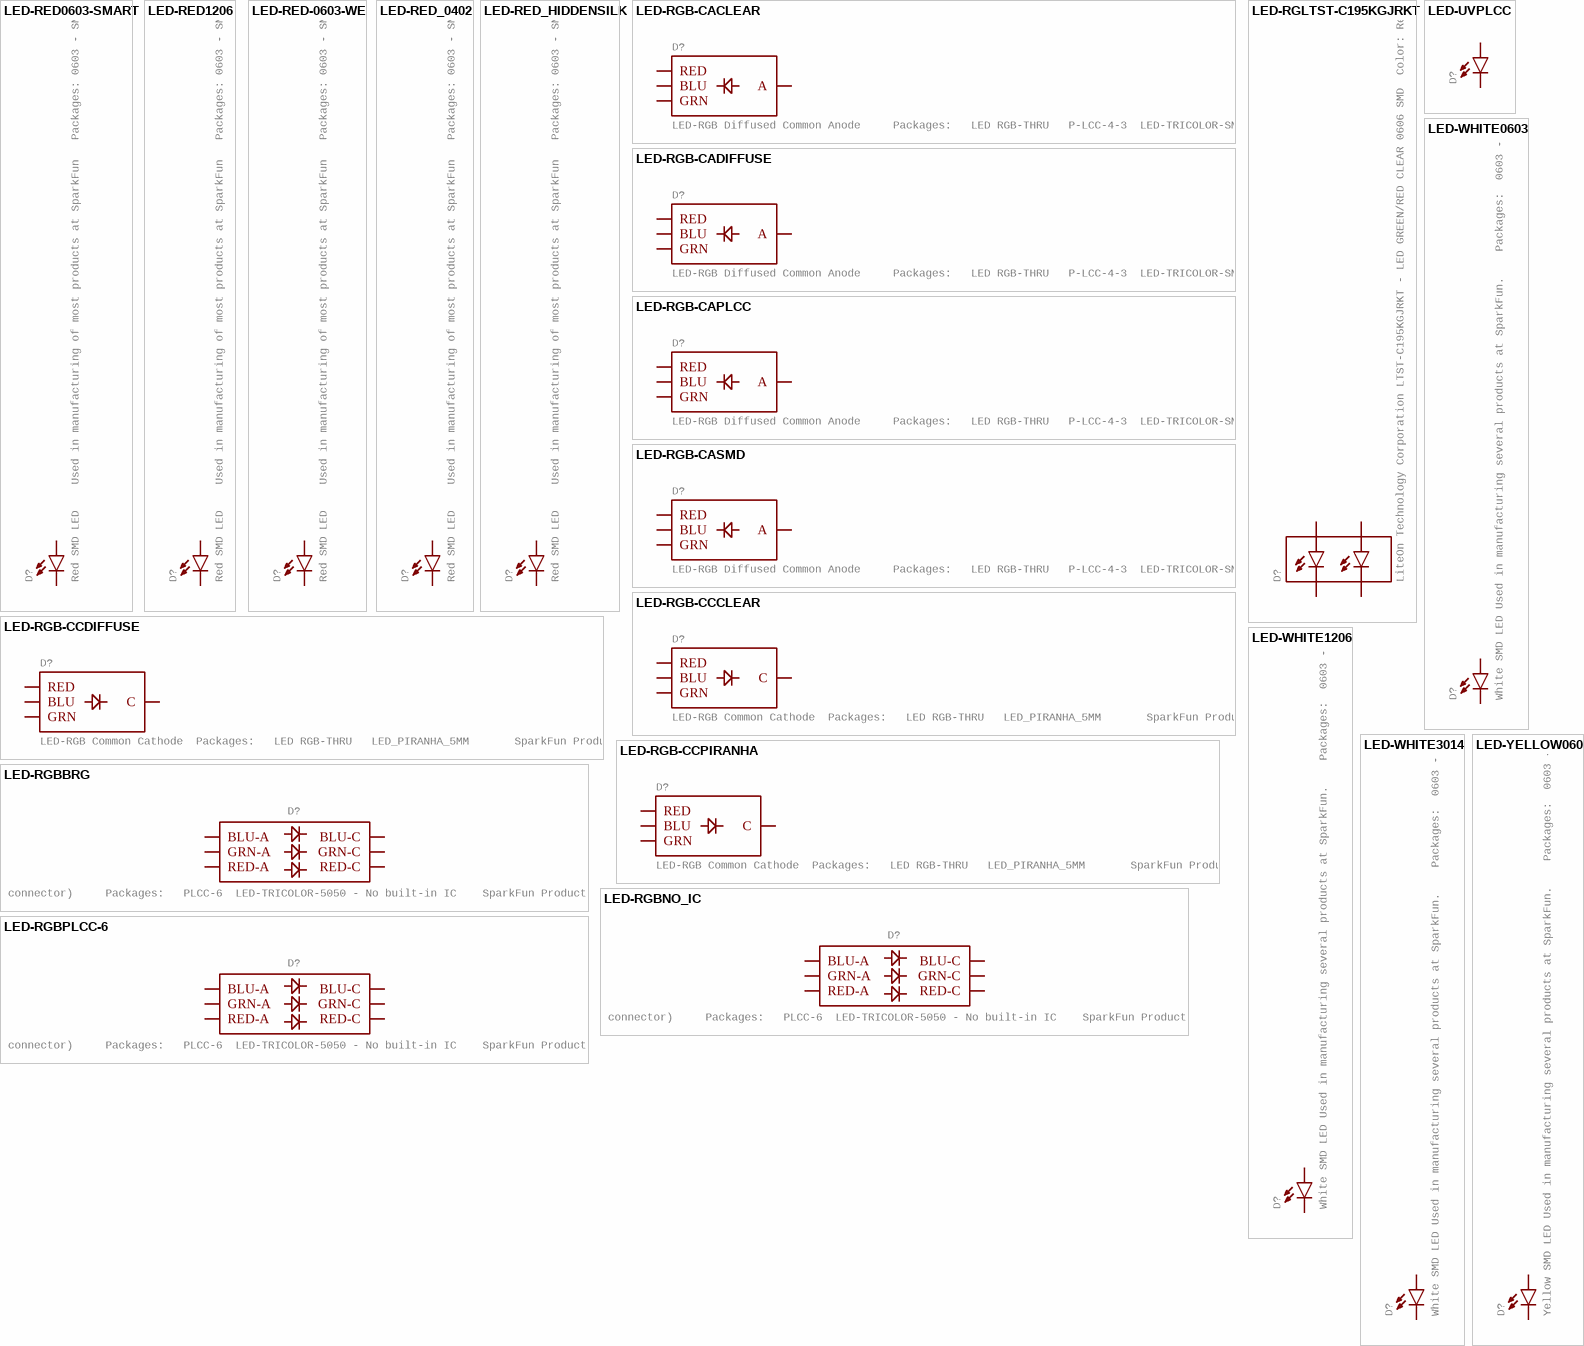
[diagram p3: symbols LED-RED0603-SMART to LED-YELLOW0603]

## LED-RED0603-SMART
designator D?, comment Red SMD LED    Used in manufacturing of most products at SparkFun   Packages: 0603 - SMD 0603 package [Product Link]  0603 SMART - SMD 0603 SMART package ( more efficient and expensive)[Product Link]   1206 - SMD1206  package [Product Link]    SparkFun Products: Pro Mini 328 -5V  RedBoard  IOIO-OTG
GateName_1: G$1; DeviceName: 0603-SMART; DeviceSetName: LED-RED; PROD_ID: DIO-11154; SymbolName_1: LED; LibraryName: SparkFun-LED; Package: LED-0603
footprint LED-0603
pins: A, C

## LED-RED1206
designator D?, comment Red SMD LED    Used in manufacturing of most products at SparkFun   Packages: 0603 - SMD 0603 package [Product Link]  0603 SMART - SMD 0603 SMART package ( more efficient and expensive)[Product Link]   1206 - SMD1206  package [Product Link]    SparkFun Products: Pro Mini 328 -5V  RedBoard  IOIO-OTG
GateName_1: G$1; DeviceName: 1206; DeviceSetName: LED-RED; PROD_ID: DIO-09912; SymbolName_1: LED; LibraryName: SparkFun-LED; Package: LED-1206
footprint LED-1206
pins: A, C

## LED-RED-0603-WE
designator D?, comment Red SMD LED    Used in manufacturing of most products at SparkFun   Packages: 0603 - SMD 0603 package [Product Link]  0603 SMART - SMD 0603 SMART package ( more efficient and expensive)[Product Link]   1206 - SMD1206  package [Product Link]    SparkFun Products: Pro Mini 328 -5V  RedBoard  IOIO-OTG
GateName_1: G$1; DeviceName: -0603-WE; DeviceSetName: LED-RED; PROD_ID: DIO-16511; SymbolName_1: LED; LibraryName: SparkFun-LED; Package: LED-0603
footprint LED-0603
pins: A, C

## LED-RED_0402
designator D?, comment Red SMD LED    Used in manufacturing of most products at SparkFun   Packages: 0603 - SMD 0603 package [Product Link]  0603 SMART - SMD 0603 SMART package ( more efficient and expensive)[Product Link]   1206 - SMD1206  package [Product Link]    SparkFun Products: Pro Mini 328 -5V  RedBoard  IOIO-OTG
GateName_1: G$1; DeviceName: _0402; DeviceSetName: LED-RED; PROD_ID: DIO-16757; SymbolName_1: LED; LibraryName: SparkFun-LED; Package: LED-0402
footprint LED-0402
pins: A, C

## LED-RED_HIDDENSILK
designator D?, comment Red SMD LED    Used in manufacturing of most products at SparkFun   Packages: 0603 - SMD 0603 package [Product Link]  0603 SMART - SMD 0603 SMART package ( more efficient and expensive)[Product Link]   1206 - SMD1206  package [Product Link]    SparkFun Products: Pro Mini 328 -5V  RedBoard  IOIO-OTG
GateName_1: G$1; DeviceName: _HIDDENSILK; DeviceSetName: LED-RED; PROD_ID: DIO-09912; SymbolName_1: LED; LibraryName: SparkFun-LED; Package: LED-1206-HIDDENSILK
footprint LED-1206-HIDDENSILK
pins: A, C

## LED-RGB-CACLEAR
designator D?, comment LED-RGB Diffused Common Anode     Packages:   LED RGB-THRU   P-LCC-4-3  LED-TRICOLOR-SMD    SparkFun Products: RGB Diffused Common Anode- Diffuse  RGB Diffused Common Anode - Clear  Qduino Mini  Triple Output LED RGB - SMD
GateName_1: G$1; SymbolName_1: LED-RGB-CA; PROD_ID: DIO-10631; DeviceName: CLEAR; LibraryName: SparkFun-LED; DeviceSetName: LED-RGB-CA; Package: LED-RGB-THRU
footprint LED-RGB-THRU
pins: 1 RED (io), 2 A (io), 3 GRN (io), 4 BLU (io)

## LED-RGB-CADIFFUSE
designator D?, comment LED-RGB Diffused Common Anode     Packages:   LED RGB-THRU   P-LCC-4-3  LED-TRICOLOR-SMD    SparkFun Products: RGB Diffused Common Anode- Diffuse  RGB Diffused Common Anode - Clear  Qduino Mini  Triple Output LED RGB - SMD
GateName_1: G$1; SymbolName_1: LED-RGB-CA; PROD_ID: DIO-10632; DeviceName: DIFFUSE; LibraryName: SparkFun-LED; DeviceSetName: LED-RGB-CA; Package: LED-RGB-THRU
footprint LED-RGB-THRU
pins: 1 RED (io), 2 A (io), 3 GRN (io), 4 BLU (io)

## LED-RGB-CAPLCC
designator D?, comment LED-RGB Diffused Common Anode     Packages:   LED RGB-THRU   P-LCC-4-3  LED-TRICOLOR-SMD    SparkFun Products: RGB Diffused Common Anode- Diffuse  RGB Diffused Common Anode - Clear  Qduino Mini  Triple Output LED RGB - SMD
GateName_1: G$1; SymbolName_1: LED-RGB-CA; DeviceName: PLCC; PROD_ID: DIO-12986; LibraryName: SparkFun-LED; DeviceSetName: LED-RGB-CA; Package: P-LCC-4-3
footprint P-LCC-4-3
pins: 1 RED (io), 2 GRN (io), 3 BLU (io), 4 A (io)

## LED-RGB-CASMD
designator D?, comment LED-RGB Diffused Common Anode     Packages:   LED RGB-THRU   P-LCC-4-3  LED-TRICOLOR-SMD    SparkFun Products: RGB Diffused Common Anode- Diffuse  RGB Diffused Common Anode - Clear  Qduino Mini  Triple Output LED RGB - SMD
GateName_1: G$1; SymbolName_1: LED-RGB-CA; PROD_ID: DIO-08324; DeviceName: SMD; LibraryName: SparkFun-LED; DeviceSetName: LED-RGB-CA; Package: LED-TRICOLOR-SMD
footprint LED-TRICOLOR-SMD
pins: A (io), B BLU (io), G GRN (io), R RED (io)

## LED-RGB-CCCLEAR
designator D?, comment LED-RGB Common Cathode  Packages:   LED RGB-THRU   LED_PIRANHA_5MM       SparkFun Products: RGB Diffused Common Cathode- Diffuse  RGB Diffused Common Cathode - Clear  LED-RGB 5mm Square (Piranha)
GateName_1: G$1; SymbolName_1: LED-RGB-CC; PROD_ID: DIO-08418; DeviceName: CLEAR; LibraryName: SparkFun-LED; DeviceSetName: LED-RGB-CC; Package: LED-RGB-THRU
footprint LED-RGB-THRU
pins: 1 RED (io), 2 C (io), 3 GRN (io), 4 BLU (io)

## LED-RGB-CCDIFFUSE
designator D?, comment LED-RGB Common Cathode  Packages:   LED RGB-THRU   LED_PIRANHA_5MM       SparkFun Products: RGB Diffused Common Cathode- Diffuse  RGB Diffused Common Cathode - Clear  LED-RGB 5mm Square (Piranha)
GateName_1: G$1; SymbolName_1: LED-RGB-CC; PROD_ID: DIO-09434; DeviceName: DIFFUSE; LibraryName: SparkFun-LED; DeviceSetName: LED-RGB-CC; Package: LED-RGB-THRU
footprint LED-RGB-THRU
pins: 1 RED (io), 2 C (io), 3 GRN (io), 4 BLU (io)

## LED-RGB-CCPIRANHA
designator D?, comment LED-RGB Common Cathode  Packages:   LED RGB-THRU   LED_PIRANHA_5MM       SparkFun Products: RGB Diffused Common Cathode- Diffuse  RGB Diffused Common Cathode - Clear  LED-RGB 5mm Square (Piranha)
GateName_1: G$1; SymbolName_1: LED-RGB-CC; SF_ID: COM-11679; DeviceName: PIRANHA; LibraryName: SparkFun-LED; DeviceSetName: LED-RGB-CC; Package: LED_PIRANHA_5MM
footprint LED_PIRANHA_5MM
pins: - C (io), B BLU (io), G GRN (io), R RED (io)

## LED-RGBBRG
designator D?, comment LED-RGB  6 pin RGB LED (no common connector)     Packages:   PLCC-6  LED-TRICOLOR-5050 - No built-in IC    SparkFun Products: Digital Sandbox   LED- SMD RGB
GateName_1: G$1; SymbolName_1: LED-RGB-INDV; DeviceName: BRG; PROD_ID: DIO-16048; LibraryName: SparkFun-LED; DeviceSetName: LED-RGB; Package: LED-TRICOLOR-5050
footprint LED-TRICOLOR-5050
pins: 1 BLU-C (io), 2 RED-C (io), 3 GRN-C (io), 4 GRN-A (io), 5 RED-A (io), 6 BLU-A (io)

## LED-RGBNO_IC
designator D?, comment LED-RGB  6 pin RGB LED (no common connector)     Packages:   PLCC-6  LED-TRICOLOR-5050 - No built-in IC    SparkFun Products: Digital Sandbox   LED- SMD RGB
GateName_1: G$1; SymbolName_1: LED-RGB-INDV; DeviceName: NO_IC; PROD_ID: DIO-10298; LibraryName: SparkFun-LED; DeviceSetName: LED-RGB; Package: LED-TRICOLOR-5050
footprint LED-TRICOLOR-5050
pins: 1 GRN-A (io), 2 RED-A (io), 3 BLU-A (io), 4 BLU-C (io), 5 RED-C (io), 6 GRN-C (io)

## LED-RGBPLCC-6
designator D?, comment LED-RGB  6 pin RGB LED (no common connector)     Packages:   PLCC-6  LED-TRICOLOR-5050 - No built-in IC    SparkFun Products: Digital Sandbox   LED- SMD RGB
GateName_1: G$1; SymbolName_1: LED-RGB-INDV; PROD_ID: DIO-12113; DeviceName: PLCC-6; LibraryName: SparkFun-LED; DeviceSetName: LED-RGB; Package: PLCC-6-LED
footprint PLCC-6-LED
pins: AB BLU-A (io), AG GRN-A (io), AR RED-A (io), CB BLU-C (io), CG GRN-C (io), CR RED-C (io)

## LED-RGLTST-C195KGJRKT
designator D?, comment LiteOn Technology Corporation LTST-C195KGJRKT - LED GREEN/RED CLEAR 0606 SMD  Color: Red/Green  Lens Transparency:  Clear  Lens Style/Size: Rectangle with Flat top, 1.10 x 1.5 mm  mC Rating45mcd Red, 35 mcd Green  Current: 20mA Red, 20mA Green  Forward Voltage:  2V Red, 2V Green  Packages: 0606    SparkFun Products:  Electric Imp imp002 Breakout
GateName_1: G$1; SymbolName_1: LED-RG; PROD_ID: DIO-12140; DeviceName: LTST-C195KGJRKT; LibraryName: SparkFun-LED; DeviceSetName: LED-RG; Package: LTST-C195KGJRKT
footprint LTST-C195KGJRKT
pins: P$1 GA, P$2 RA, P$3 GC, P$4 RC

## LED-UVPLCC
designator D?
GateName_1: D1; SymbolName_1: LED; DeviceName: PLCC; DeviceSetName: LED-UV; PROD_ID: DIO-14126; LibraryName: SparkFun-LED; Package: PLCC-2
footprint PLCC-2
pins: A, C

## LED-WHITE0603
designator D?, comment White SMD LED Used in manufacturing several products at SparkFun.    Packages:  0603 - Bright White SMD 0603  package[Product Link]   1206 - Bright White SMD1206  package [Product Link]   3014 - Super Bright SMD 3014 package [Datasheet]    SparkFun Products: Blackberry Trackballer Breakout  Digital SandBox
GateName_1: G$1; DeviceName: 0603; DeviceSetName: LED-WHITE; PROD_ID: DIO-09004; SymbolName_1: LED; LibraryName: SparkFun-LED; Package: LED-0603
footprint LED-0603
pins: A, C

## LED-WHITE1206
designator D?, comment White SMD LED Used in manufacturing several products at SparkFun.    Packages:  0603 - Bright White SMD 0603  package[Product Link]   1206 - Bright White SMD1206  package [Product Link]   3014 - Super Bright SMD 3014 package [Datasheet]    SparkFun Products: Blackberry Trackballer Breakout  Digital SandBox
GateName_1: G$1; DeviceName: 1206; DeviceSetName: LED-WHITE; PROD_ID: DIO-09955; SymbolName_1: LED; LibraryName: SparkFun-LED; Package: LED-1206
footprint LED-1206
pins: A, C

## LED-WHITE3014
designator D?, comment White SMD LED Used in manufacturing several products at SparkFun.    Packages:  0603 - Bright White SMD 0603  package[Product Link]   1206 - Bright White SMD1206  package [Product Link]   3014 - Super Bright SMD 3014 package [Datasheet]    SparkFun Products: Blackberry Trackballer Breakout  Digital SandBox
GateName_1: G$1; DeviceName: 3014; DeviceSetName: LED-WHITE; PROD_ID: DIO-13728; SymbolName_1: LED; LibraryName: SparkFun-LED; Package: SUPER_BRIGHT_SMD_LED_3014
footprint SUPER_BRIGHT_SMD_LED_3014
pins: A, C

## LED-YELLOW0603
designator D?, comment Yellow SMD LED Used in manufacturing several products at SparkFun.    Packages:  0603 -  SMD 0603  package  0603 -SMART - SMART SMD 0603  package (more efficient/more expensive) [Product Link]   LilyPad - SMD1206  package[Product Datasheet]       SparkFun Products: Blynk Board  IOIO-OTG  XBee Explorer Serial
GateName_1: G$1; DeviceName: 0603; DeviceSetName: LED-YELLOW; PROD_ID: DIO-09003; SymbolName_1: LED; LibraryName: SparkFun-LED; Package: LED-0603
footprint LED-0603
pins: A, C

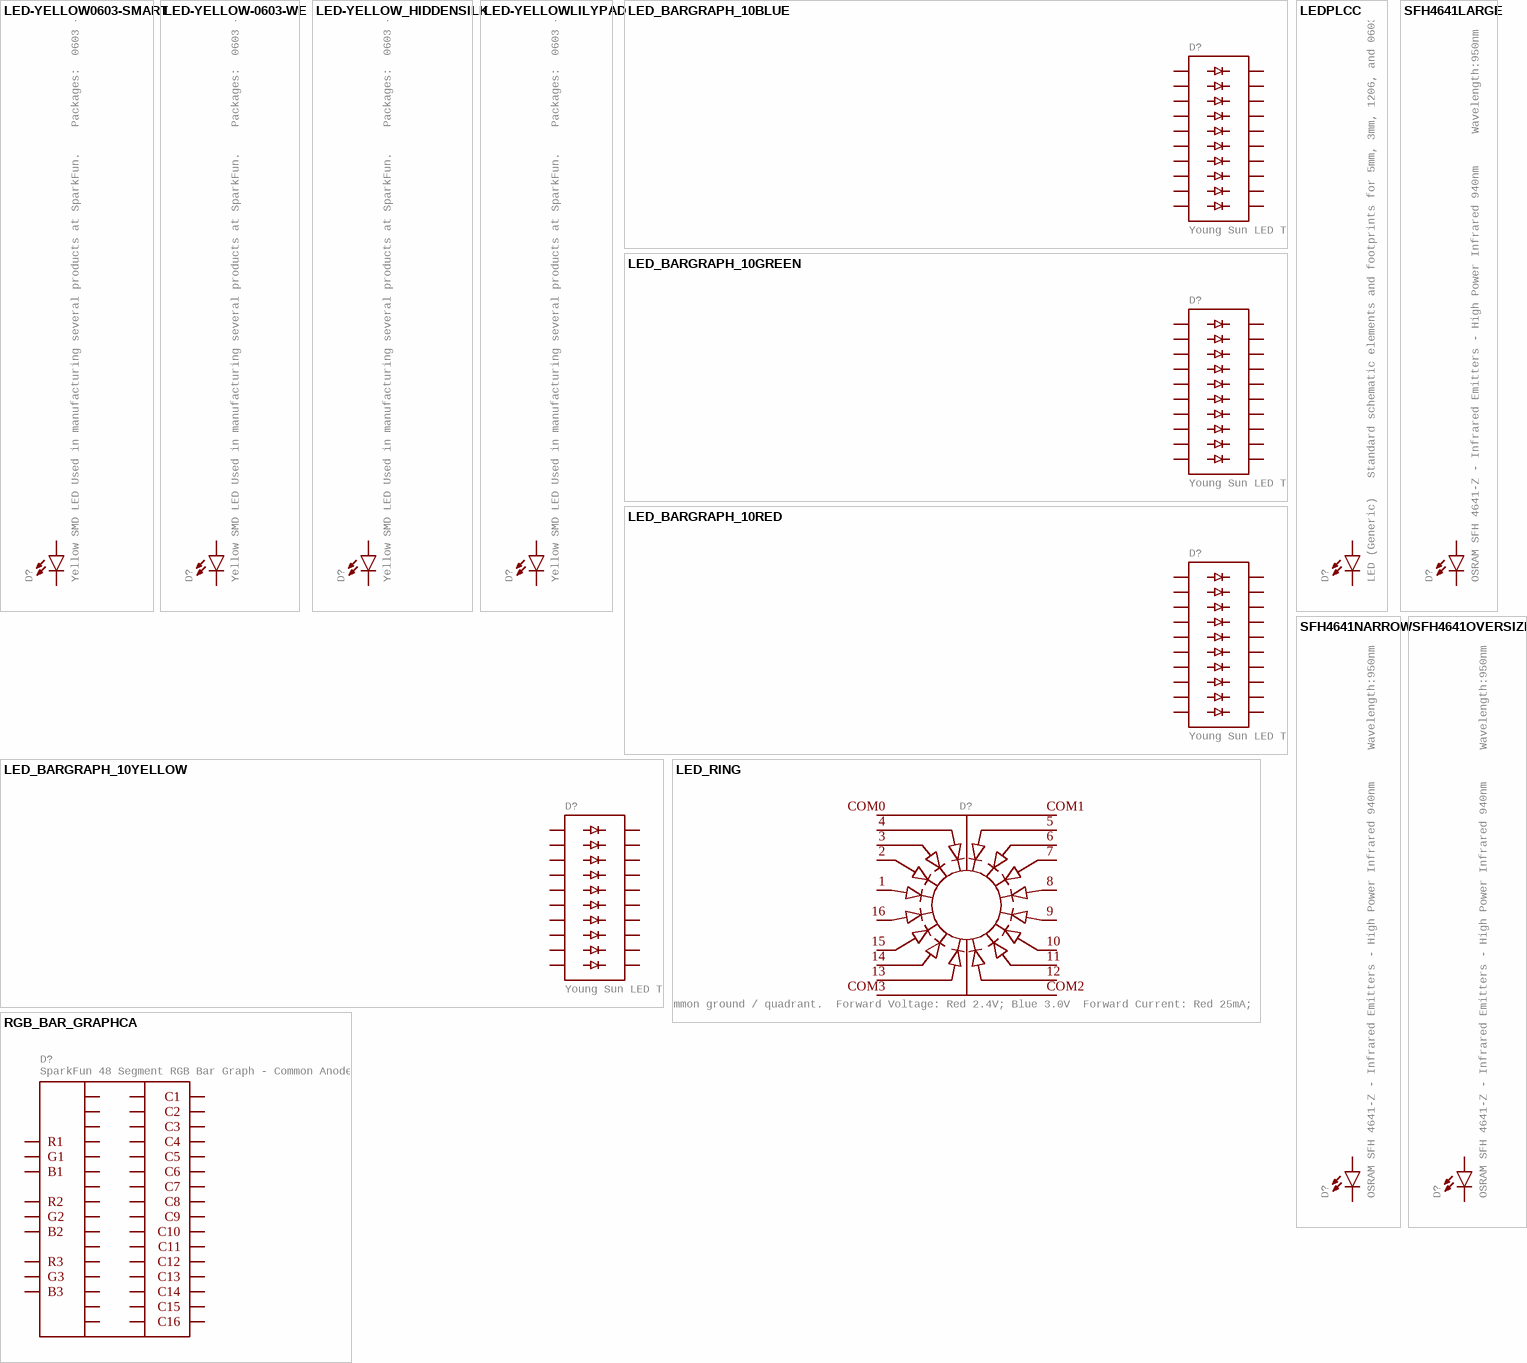
[diagram p4: symbols LED-YELLOW0603-SMART to SFH4641OVERSIZE]

## LED-YELLOW0603-SMART
designator D?, comment Yellow SMD LED Used in manufacturing several products at SparkFun.    Packages:  0603 -  SMD 0603  package  0603 -SMART - SMART SMD 0603  package (more efficient/more expensive) [Product Link]   LilyPad - SMD1206  package[Product Datasheet]       SparkFun Products: Blynk Board  IOIO-OTG  XBee Explorer Serial
GateName_1: G$1; DeviceSetName: LED-YELLOW; PROD_ID: DIO-11230; SymbolName_1: LED; DeviceName: 0603-SMART; LibraryName: SparkFun-LED; Package: LED-0603
footprint LED-0603
pins: A, C

## LED-YELLOW-0603-WE
designator D?, comment Yellow SMD LED Used in manufacturing several products at SparkFun.    Packages:  0603 -  SMD 0603  package  0603 -SMART - SMART SMD 0603  package (more efficient/more expensive) [Product Link]   LilyPad - SMD1206  package[Product Datasheet]       SparkFun Products: Blynk Board  IOIO-OTG  XBee Explorer Serial
GateName_1: G$1; DeviceName: -0603-WE; DeviceSetName: LED-YELLOW; PROD_ID: DIO-16514; SymbolName_1: LED; LibraryName: SparkFun-LED; Package: LED-0603
footprint LED-0603
pins: A, C

## LED-YELLOW_HIDDENSILK
designator D?, comment Yellow SMD LED Used in manufacturing several products at SparkFun.    Packages:  0603 -  SMD 0603  package  0603 -SMART - SMART SMD 0603  package (more efficient/more expensive) [Product Link]   LilyPad - SMD1206  package[Product Datasheet]       SparkFun Products: Blynk Board  IOIO-OTG  XBee Explorer Serial
GateName_1: G$1; DeviceName: _HIDDENSILK; DeviceSetName: LED-YELLOW; PROD_ID: DIO-09909; SymbolName_1: LED; LibraryName: SparkFun-LED; Package: LED-1206-HIDDENSILK
footprint LED-1206-HIDDENSILK
pins: A, C

## LED-YELLOWLILYPAD
designator D?, comment Yellow SMD LED Used in manufacturing several products at SparkFun.    Packages:  0603 -  SMD 0603  package  0603 -SMART - SMART SMD 0603  package (more efficient/more expensive) [Product Link]   LilyPad - SMD1206  package[Product Datasheet]       SparkFun Products: Blynk Board  IOIO-OTG  XBee Explorer Serial
GateName_1: G$1; DeviceSetName: LED-YELLOW; PROD_ID: DIO-09909; SymbolName_1: LED; DeviceName: LILYPAD; LibraryName: SparkFun-LED; Package: LED-1206
footprint LED-1206
pins: A, C

## LED_BARGRAPH_10BLUE
designator D?, comment Young Sun LED Tech - YSLB-10251G5-10 10-Segment LED Bar Graph    Features: Red Vf = 2.1V, Ifmax = 20mA   Yellow Vf = 2.1V, Ifmax = 20mA   Blue Vf = 3.4V, Ifmax = 20mA   Green Vf = 3.4V, Ifmax = 20mA        SparkFun Products:  Red  Yellow  Green  Blue
GateName_1: G$1; SymbolName_1: LED_BARGRAPH_10; PROD_ID: DIO-10613; DeviceName: BLUE; LibraryName: SparkFun-LED; DeviceSetName: LED_BARGRAPH_10; Package: LED_BARGRAPH_10
footprint LED_BARGRAPH_10
pins: 1 A, 2 A1, 3 A2, 4 A3, 5 A4, 6 A5, 7 A6, 8 A7, 9 A8, 10 A9, 11 C9, 12 C8, 13 C7, 14 C6, 15 C5, 16 C4, 17 C3, 18 C2, 19 C1, 20 C

## LED_BARGRAPH_10GREEN
designator D?, comment Young Sun LED Tech - YSLB-10251G5-10 10-Segment LED Bar Graph    Features: Red Vf = 2.1V, Ifmax = 20mA   Yellow Vf = 2.1V, Ifmax = 20mA   Blue Vf = 3.4V, Ifmax = 20mA   Green Vf = 3.4V, Ifmax = 20mA        SparkFun Products:  Red  Yellow  Green  Blue
GateName_1: G$1; SymbolName_1: LED_BARGRAPH_10; PROD_ID: DIO-10612; DeviceName: GREEN; LibraryName: SparkFun-LED; DeviceSetName: LED_BARGRAPH_10; Package: LED_BARGRAPH_10
footprint LED_BARGRAPH_10
pins: 1 A, 2 A1, 3 A2, 4 A3, 5 A4, 6 A5, 7 A6, 8 A7, 9 A8, 10 A9, 11 C9, 12 C8, 13 C7, 14 C6, 15 C5, 16 C4, 17 C3, 18 C2, 19 C1, 20 C

## LED_BARGRAPH_10RED
designator D?, comment Young Sun LED Tech - YSLB-10251G5-10 10-Segment LED Bar Graph    Features: Red Vf = 2.1V, Ifmax = 20mA   Yellow Vf = 2.1V, Ifmax = 20mA   Blue Vf = 3.4V, Ifmax = 20mA   Green Vf = 3.4V, Ifmax = 20mA        SparkFun Products:  Red  Yellow  Green  Blue
GateName_1: G$1; SymbolName_1: LED_BARGRAPH_10; PROD_ID: DIO-10615; DeviceName: RED; LibraryName: SparkFun-LED; DeviceSetName: LED_BARGRAPH_10; Package: LED_BARGRAPH_10
footprint LED_BARGRAPH_10
pins: 1 A, 2 A1, 3 A2, 4 A3, 5 A4, 6 A5, 7 A6, 8 A7, 9 A8, 10 A9, 11 C9, 12 C8, 13 C7, 14 C6, 15 C5, 16 C4, 17 C3, 18 C2, 19 C1, 20 C

## LED_BARGRAPH_10YELLOW
designator D?, comment Young Sun LED Tech - YSLB-10251G5-10 10-Segment LED Bar Graph    Features: Red Vf = 2.1V, Ifmax = 20mA   Yellow Vf = 2.1V, Ifmax = 20mA   Blue Vf = 3.4V, Ifmax = 20mA   Green Vf = 3.4V, Ifmax = 20mA        SparkFun Products:  Red  Yellow  Green  Blue
GateName_1: G$1; SymbolName_1: LED_BARGRAPH_10; PROD_ID: DIO-10614; DeviceName: YELLOW; LibraryName: SparkFun-LED; DeviceSetName: LED_BARGRAPH_10; Package: LED_BARGRAPH_10
footprint LED_BARGRAPH_10
pins: 1 A, 2 A1, 3 A2, 4 A3, 5 A4, 6 A5, 7 A6, 8 A7, 9 A8, 10 A9, 11 C9, 12 C8, 13 C7, 14 C6, 15 C5, 16 C4, 17 C3, 18 C2, 19 C1, 20 C

## LED_RING
designator D?, comment Top Up Industry Corp 16 LED Ring - LED-CCLA    16 LEDs broken into quarters. 4 anode pins + 1 common ground / quadrant.  Forward Voltage: Red 2.4V; Blue 3.0V  Forward Current: Red 25mA; Blue 30mA  Wavelength:  Red 624nm; Blue 465nm    SparkFun Products:  Blue LED Ring  Red LED Ring
GateName_1: G$1; SymbolName_1: LED_RING; SF_ID: COM-10595; LibraryName: SparkFun-LED; DeviceSetName: LED_RING; Package: LED_RING
footprint LED_RING
pins: 1, 2, 3, 4, 5, 6, 7, 8, 9, 10, 11, 12, 13, 14, 15, 16, COM0, COM1, COM2, COM3

## LEDPLCC
designator D?, comment LED (Generic)   Standard schematic elements and footprints for 5mm, 3mm, 1206, and 0603 sized LEDs. Generic LEDs with no color specified.
GateName_1: D1; DeviceName: PLCC; SymbolName_1: LED; LibraryName: SparkFun-LED; DeviceSetName: LED; Package: PLCC-2
footprint PLCC-2
pins: ?1 C, ?2 A

## RGB_BAR_GRAPHCA
designator D?, comment SparkFun 48 Segment RGB Bar Graph - Common Anode
GateName_1: D1; SymbolName_1: RGB_BAR_GRAPH; DeviceName: CA; PROD_ID: COM-13520; LibraryName: SparkFun-LED; DeviceSetName: RGB_BAR_GRAPH; Package: RGB_BAR_GRAPH
footprint RGB_BAR_GRAPH
pins: 1 C1 (io), 2 G3 (io), 3 C3 (io), 4 C4 (io), 5 C6 (io), 6 B2 (io), 7 G1 (io), 8 C10 (io), 9 R1 (io), 10 C13 (io), 11 C14 (io), 12 C16 (io), 13 R3 (io), 14 B3 (io), 15 C15 (io), 16 G2 (io), 17 R2 (io), 18 C12 (io), 19 C11 (io), 20 C9 (io), 21 C8 (io), 22 C7 (io), 23 C5 (io), 24 B1 (io), 25 C2 (io)

## SFH4641LARGE
designator D?, comment OSRAM SFH 4641-Z - Infrared Emitters - High Power Infrared 940nm     Wavelength:950nm  Beam Angle:20 degree  Forward Current:70mA  Forward Voltage:1.6V    Variants:  Large:Large pads  Narrow:Narrow pads  Oversize:Oversize pads  Short:Short pads  Short2:Short, wide pads       SparkFun Products:  ZX Distance and Gesture Sensor
GateName_1: G$1; SymbolName_1: LED; DeviceName: LARGE; PROD_ID: DIO-11994; LibraryName: SparkFun-LED; DeviceSetName: SFH4641; Package: SFH4641
footprint SFH4641
pins: A, C